# Altium footprint library STM32L432KBU6.PcbLib: 1 footprints
Each footprint in its own frame and in the unit in brackets; x right, y up, seen from the top. Pads: shape width x height; smd on the part's side, far side on the other; paste and mask are expansions set on the pad; w line width, h text height; cw(c..) or ccw(c..) is an arc to the next point about the centre after c.
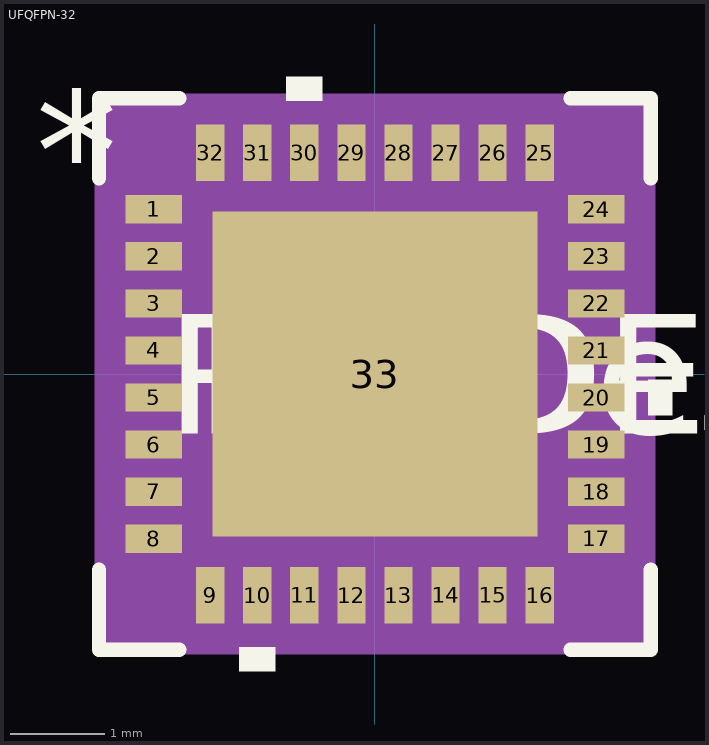
[diagram p0: the footprint, top view; thin cyan lines are the x and y axes]

## UFQFPN-32 [mm]
pads (33):
  rect 0.6x0.3 smd paste+0 mask+0: 1(-2.35,1.75) 2(-2.35,1.25) 3(-2.35,0.75) 4(-2.35,0.25) 5(-2.35,-0.25) 6(-2.35,-0.75) 7(-2.35,-1.25) 8(-2.35,-1.75) 17(2.35,-1.75) 18(2.35,-1.25) 19(2.35,-0.75) 20(2.35,-0.25) 21(2.35,0.25) 22(2.35,0.75) 23(2.35,1.25) 24(2.35,1.75)
  rect 0.3x0.6 smd paste+0 mask+0: 9(-1.75,-2.35) 10(-1.25,-2.35) 11(-0.75,-2.35) 12(-0.25,-2.35) 13(0.25,-2.35) 14(0.75,-2.35) 15(1.25,-2.35) 16(1.75,-2.35) 25(1.75,2.35) 26(1.25,2.35) 27(0.75,2.35) 28(0.25,2.35) 29(-0.25,2.35) 30(-0.75,2.35) 31(-1.25,2.35) 32(-1.75,2.35)
  rect 3.454x3.454 smd paste-1.727 mask+0: 33(0,0)
Top Overlay:
  region: -1.06,-2.904 -1.441,-2.904 -1.441,-3.158 -1.06,-3.158
  region: 2.904,-0.059 3.158,-0.059 3.158,-0.44 2.904,-0.44
  region: -0.56,2.904 -0.941,2.904 -0.941,3.158 -0.56,3.158
  lines w0.152: -2.931,-2.078 -2.931,-2.931 -2.078,-2.931 ; -2.931,2.078 -2.931,2.931 -2.078,2.931 ; 2.078,-2.931 2.931,-2.931 2.931,-2.078 ; 2.078,2.931 2.931,2.931 2.931,2.078
  text "*" at -3.602,1.746 h1.27
  text "RefDes" at -1.905,-0.635 h1.27
  text "REFDES" at -2.222,-0.635 h1.27
Top Paste:
  region: -0.1,1.627 -1.627,1.627 -1.627,0.1 -0.1,0.1
  region: -0.1,-0.1 -1.627,-0.1 -1.627,-1.627 -0.1,-1.627
  region: 1.627,1.627 0.1,1.627 0.1,0.1 1.627,0.1
  region: 1.627,-0.1 0.1,-0.1 0.1,-1.627 1.627,-1.627
Mechanical 13:
  lines w0.025: -2.55,1.28 -1.28,2.55 ; -2.55,-2.55 2.55,-2.55 2.55,2.55 -2.55,2.55 -2.55,-2.55
  text "*" at -2.114,1.365 h1.27
  text "RefDes2" at -2.222,-0.635 h1.27
Mechanical 15:
  region: -2.154,-2.804 -2.804,-2.804 -2.804,-2.154 -2.904,-2.154 -2.904,2.154 -2.804,2.154 -2.804,2.804 -2.154,2.804 -2.154,2.904 2.154,2.904 2.154,2.804 2.804,2.804 2.804,2.154 2.904,2.154 2.904,-2.154 2.804,-2.154 2.804,-2.804 2.154,-2.804 2.154,-2.904 -2.154,-2.904
  lines w0.152: -2.904,-2.154 -2.804,-2.154 -2.804,-2.804 -2.154,-2.804 -2.154,-2.904 2.154,-2.904 2.154,-2.804 2.804,-2.804 2.804,-2.154 2.904,-2.154 2.904,2.154 2.804,2.154 2.804,2.804 2.154,2.804 2.154,2.904 -2.154,2.904 -2.154,2.804 -2.804,2.804 -2.804,2.154 -2.904,2.154 -2.904,-2.154
3D body "UFQFPN-32.step": height 1.4, standoff 0, extent -2.601,-2.601 2.601,2.601